# Altium footprint library Solar-Charger.PcbLib: 29 footprints (part 2 of 2)
Each footprint in its own frame and in the unit in brackets; x right, y up, seen from the top. Pads: shape width x height; smd on the part's side, far side on the other; paste and mask are expansions set on the pad; w line width, h text height; cw(c..) or ccw(c..) is an arc to the next point about the centre after c.
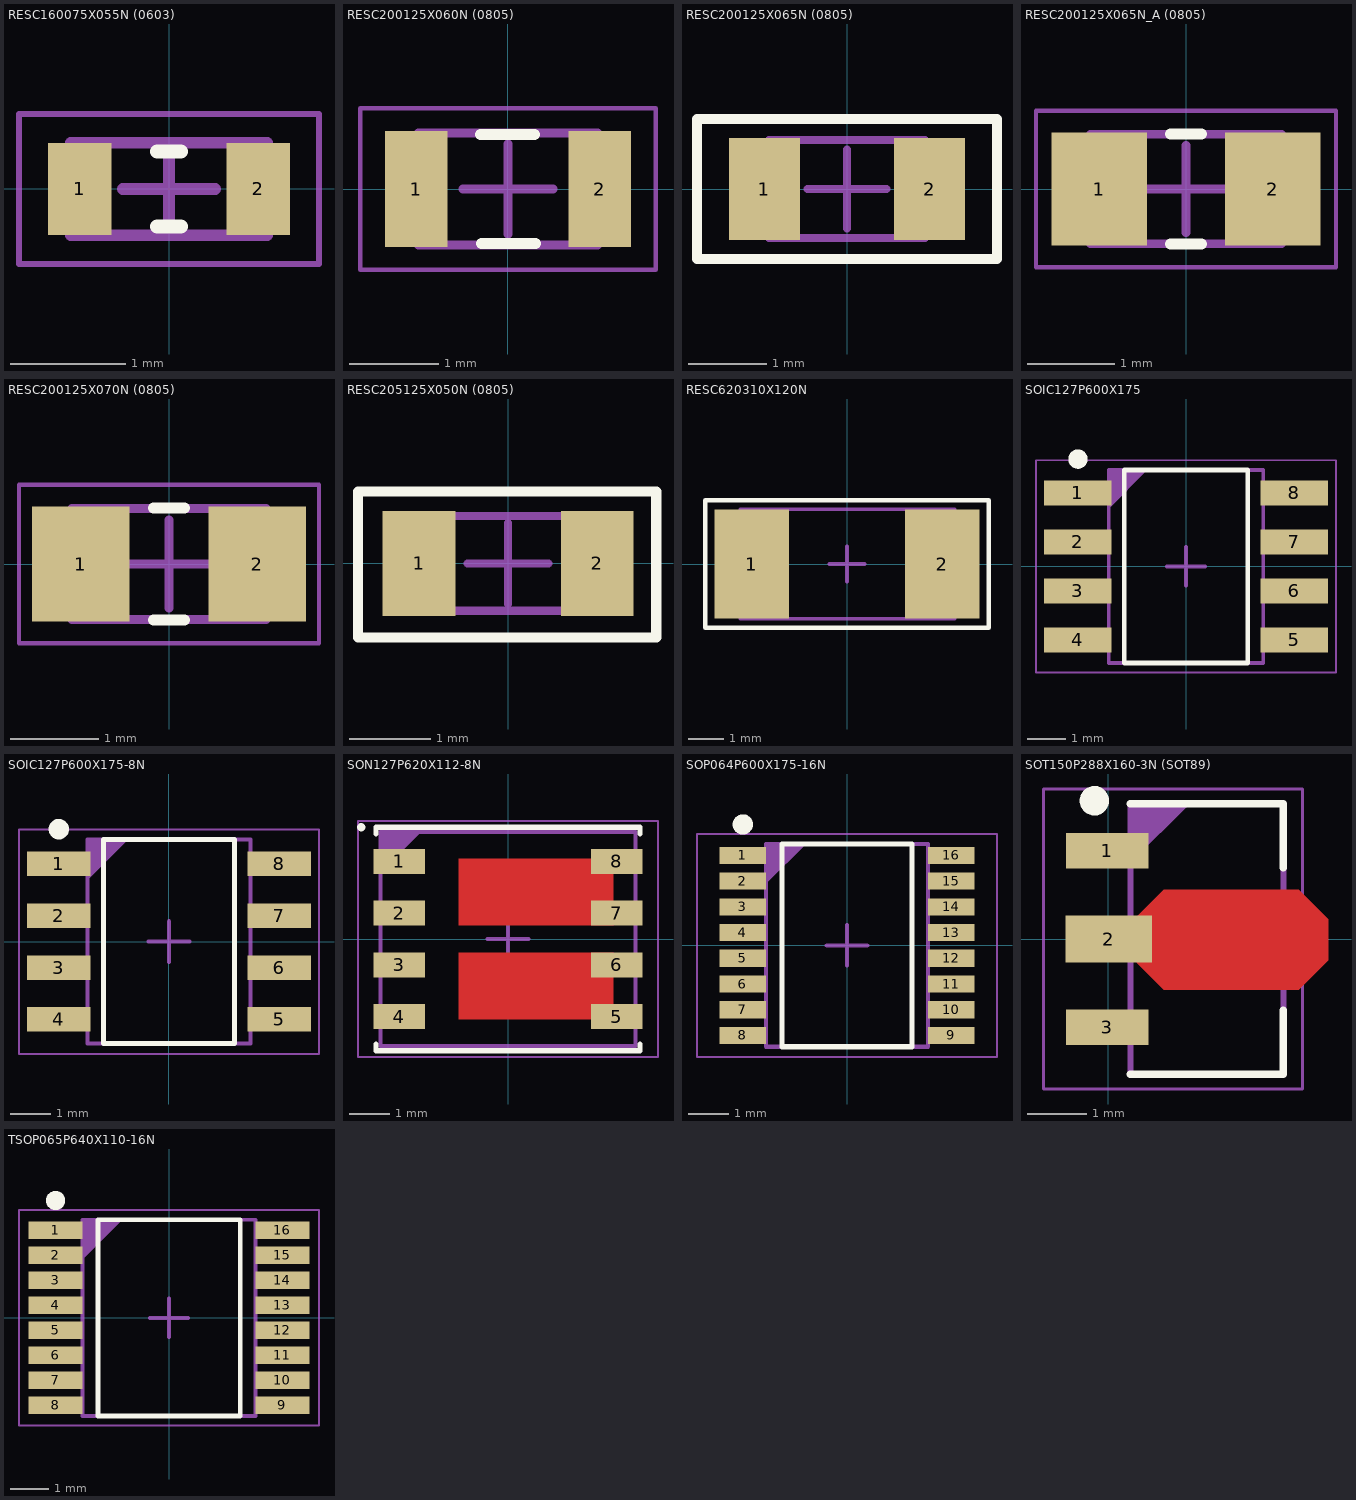
[diagram p1: the footprints below, top view; thin cyan lines are the x and y axes]

## RESC160075X055N (0603) [mm] "Chip Resistor, 2-Leads, Body 1.60x0.75mm, IPC Medium Density"
height 0.55
pads (2):
  rect 0.55x0.8 smd: 1(-0.775,0) 2(0.775,0)
Top Overlay:
  lines w0.125: -0.1,-0.325 0.1,-0.325 ; -0.1,0.325 0.1,0.325
Top Assembly:
  lines w0.1: -0.85,-0.4 -0.85,0.4 0.85,0.4 0.85,-0.4 -0.85,-0.4
Top Courtyard:
  lines w0.05: -1.3,-0.65 -1.3,0.65 1.3,0.65 1.3,-0.65 -1.3,-0.65
  lines w0.1: -0.4,0 0.4,0 ; 0,-0.4 0,0.4
3D body "RESC1608X06N.step": height 0.55, standoff 0, extent -0.85,-0.4 0.85,0.4

## RESC200125X060N (0805) [mm] "Chip Resistor, 2-Leads, Body 2.00x1.25mm, IPC Medium Density"
height 0.6
pads (2):
  rect 0.7x1.3 smd: 1(-1.025,0) 2(1.025,0)
Top Overlay:
  lines w0.125: -0.305,0.61 0.295,0.61 ; -0.295,-0.61 0.305,-0.61
Top Assembly:
  lines w0.1: -1,-0.625 1,-0.625 1,0.625 -1,0.625 -1,-0.625
Top Courtyard:
  lines w0.05: -1.65,-0.9 1.65,-0.9 1.65,0.9 -1.65,0.9 -1.65,-0.9
  lines w0.1: -0.5,0 0.5,0 ; 0,-0.5 0,0.5
3D body "RESC2012X06N.step": height 0.6, standoff 0, extent -1,-0.625 1,0.625

## RESC200125X065N (0805) [mm] "Chip Resistor, 2-Leads, Body 2.00x1.25mm, IPC Medium Density"
height 0.65
pads (2):
  rect 0.9x1.3 smd: 1(-1.05,0) 2(1.05,0)
Top Overlay:
  lines w0.125: -1.905,-0.889 1.905,-0.89 1.905,0.889 -1.905,0.889 -1.905,-0.889
Top Assembly:
  lines w0.1: -0.991,-0.62 0.991,-0.62 0.991,0.62 -0.991,0.62 -0.991,-0.62
Top Courtyard:
  lines w0.05: -1.9,-0.9 1.9,-0.9 1.9,0.9 -1.9,0.9 -1.9,-0.9
  lines w0.1: -0.5,0 0.5,0 ; 0,-0.5 0,0.5
3D body "RMCF0805FG47K5.STEP": height 0.65, standoff 0, extent -1,-0.625 1,0.625

## RESC200125X065N_A (0805) [mm] "Chip Resistor, 2-Leads, Body 2.00x1.25mm, IPC Medium Density"
height 0.65
pads (2):
  rect 1.1x1.3 smd: 1(-1,0) 2(1,0)
Top Overlay:
  lines w0.125: -0.178,-0.635 0.178,-0.635 ; -0.178,0.635 0.178,0.635
Top Assembly:
  lines w0.1: -1.1,-0.63 -1.1,0.63 1.1,0.63 1.1,-0.63 -1.1,-0.63
Top Courtyard:
  lines w0.05: -1.727,-0.9 -1.727,0.9 1.727,0.9 1.727,-0.9 -1.727,-0.9
  lines w0.1: -0.5,0 0.5,0 ; 0,-0.5 0,0.5
3D body "RESC2012X06N.step": height 0.65, standoff 0, extent -1.1,-0.63 1.1,0.63

## RESC200125X070N (0805) [mm] "Chip Resistor, 2-Leads, Body 2.00x1.25mm, IPC Medium Density"
height 0.7
pads (2):
  rect 1.1x1.3 smd: 1(-1,0) 2(1,0)
Top Overlay:
  lines w0.125: -0.178,-0.635 0.178,-0.635 ; -0.178,0.635 0.178,0.635
Top Assembly:
  lines w0.1: -1.1,-0.63 -1.1,0.63 1.1,0.63 1.1,-0.63 -1.1,-0.63
Top Courtyard:
  lines w0.05: -1.7,-0.9 -1.7,0.9 1.7,0.9 1.7,-0.9 -1.7,-0.9
  lines w0.1: -0.5,0 0.5,0 ; 0,-0.5 0,0.5
3D body "RESC2012X07N.step": height 0.7, standoff 0, extent -1.1,-0.63 1.1,0.63

## RESC205125X050N (0805) [mm] "Chip Resistor, 2-Leads, Body 2.05x1.25mm, IPC Medium Density"
height 0.5
pads (2):
  rect 0.9x1.3 smd: 1(-1.1,0) 2(1.1,0)
Top Overlay:
  lines w0.125: -1.854,-0.914 -1.854,0.889 1.829,0.889 1.829,-0.914 -1.854,-0.914
Top Assembly:
  lines w0.1: -0.991,-0.584 -0.991,0.584 0.991,0.584 0.991,-0.584 -0.991,-0.584
Top Courtyard:
  lines w0.05: -1.85,-0.9 -1.85,0.9 1.85,0.9 1.85,-0.9 -1.85,-0.9
  lines w0.1: -0.5,0 0.5,0 ; 0,-0.5 0,0.5
3D body "CRCW08055K00FKTA.STEP": height 0.5, standoff 0, extent -1,-0.625 1,0.625

## RESC620310X120N [mm] "Chip Resistor, 2-Leads, Body 2.05x1.25mm, IPC Medium Density"
height 1.2
pads (2):
  rect 2.1x3.1 smd: 1(-2.7,0) 2(2.7,0)
Top Overlay:
  lines w0.125: -4.013,-1.803 -4.013,1.803 4.013,1.803 4.013,-1.803 -4.013,-1.803
Top Assembly:
  lines w0.1: -3.023,-1.549 3.048,-1.549 3.048,1.549 -3.023,1.549 -3.023,-1.549
Top Courtyard:
  lines w0.05: -4.013,-1.8 4.013,-1.8 4.013,1.8 -4.013,1.8 -4.013,-1.8
  lines w0.1: -0.5,0 0.5,0 ; 0,-0.5 0,0.5
3D body "73M1.SLDPRT": height 1.21, standoff 0.01, extent -3.035,-1.549 3.035,1.551

## SOIC127P600X175 [mm] "SOIC, 8-Leads, Body 4.90x3.90mm, Pitch 1.27mm, IPC Medium Density"
height 1.75
pads (8):
  rect 1.75x0.65 smd: 1(-2.8,1.905) 2(-2.8,0.635) 3(-2.8,-0.635) 4(-2.8,-1.905) 5(2.8,-1.905) 6(2.8,-0.635) 7(2.8,0.635) 8(2.8,1.905)
Top Overlay:
  circle w0.25: c-2.8,2.78 r0.125
  lines w0.125: -1.6,-2.5 1.6,-2.5 1.6,2.5 -1.6,2.5 -1.6,-2.5
Top Assembly:
  region: -2,2.5 -1,2.5 -2,1.5
  lines w0.1: -2,-2.5 2,-2.5 2,2.5 -2,2.5 -2,-2.5
Top Courtyard:
  lines w0.05: -3.886,-2.75 3.886,-2.75 3.886,2.75 -3.886,2.75 -3.886,-2.75
  lines w0.1: -0.5,0 0.5,0 ; 0,-0.5 0,0.5
3D body "SOIC127P600X175-8N.step": height 1.75, standoff 0, extent -3,-2.5 3,2.5

## SOIC127P600X175-8N [mm] "SOIC, 8-Leads, Body 4.90x3.90mm, Pitch 1.27mm, IPC Medium Density"
height 1.75
pads (8):
  rect 1.55x0.6 smd: 1(-2.7,1.905) 2(-2.7,0.635) 3(-2.7,-0.635) 4(-2.7,-1.905) 5(2.7,-1.905) 6(2.7,-0.635) 7(2.7,0.635) 8(2.7,1.905)
Top Overlay:
  circle w0.25: c-2.7,2.755 r0.125
  lines w0.125: -1.6,-2.5 -1.6,2.5 1.6,2.5 1.6,-2.5 -1.6,-2.5
Top Assembly:
  region: -1.999,2.507 -0.999,2.507 -1.999,1.507
  lines w0.1: -2,-2.5 -2,2.5 2,2.5 2,-2.5 -2,-2.5
Top Courtyard:
  lines w0.05: -3.675,-2.75 -3.675,2.75 3.675,2.75 3.675,-2.75 -3.675,-2.75
  lines w0.1: -0.5,0 0.5,0 ; 0,-0.5 0,0.5
3D body "SOIC127P600X175-8N.step": height 1.75, standoff 0, extent -3,-2.5 3,2.5

## SON127P620X112-8N [mm] "SON, 8-Leads, Body 5.15x6.15mm, Pitch 1.27mm, IPC Medium Density"
height 1.12
pads (8):
  rect 1.27x0.61 smd: 1(-2.67,1.905) 2(-2.67,0.635) 3(-2.67,-0.635) 4(-2.67,-1.905) 5(2.67,-1.905) 6(2.67,-0.635) 7(2.67,0.635) 8(2.67,1.905)
Top Layer:
  rectangle: -1.22,0.33 2.59,1.98
  rectangle: -1.22,-1.98 2.59,-0.33
Top Overlay:
  circle w0.1: c-3.6,2.742 r0.05
  lines w0.125: -3.237,-2.572 -3.237,-2.742 3.237,-2.742 3.237,-2.572 ; -3.237,2.572 -3.237,2.742 3.237,2.742 3.237,2.572
Top Assembly:
  region: -3.116,2.642 -2.116,2.642 -3.116,1.642
  lines w0.1: -3.125,-2.63 -3.125,2.63 3.125,2.63 3.125,-2.63 -3.125,-2.63
Top Courtyard:
  lines w0.05: -3.68,-2.9 -3.68,2.9 3.68,2.9 3.68,-2.9 -3.68,-2.9
  lines w0.1: -0.5,0 0.5,0 ; 0,-0.5 0,0.5
3D body "SON127P620X112-8N.step": height 1.12, standoff 0, extent -3.175,-2.63 3.175,2.63

## SOP064P600X175-16N [mm] "SOP, 16-Leads, Body 4.89x3.90mm, Pitch 0.64mm, IPC Medium Density"
height 1.75
pads (16):
  rect 1.14x0.42 smd: 1(-2.57,2.222) 2(-2.57,1.587) 3(-2.57,0.953) 4(-2.57,0.318) 5(-2.57,-0.318) 6(-2.57,-0.953) 7(-2.57,-1.587) 8(-2.57,-2.222) 9(2.57,-2.222) 10(2.57,-1.587) 11(2.57,-0.953) 12(2.57,-0.318) 13(2.57,0.318) 14(2.57,0.953) 15(2.57,1.587) 16(2.57,2.222)
Top Overlay:
  circle w0.25: c-2.57,2.983 r0.125
  lines w0.125: -1.6,-2.5 1.6,-2.5 1.6,2.5 -1.6,2.5 -1.6,-2.5
Top Assembly:
  region: -1.999,2.515 -0.999,2.515 -1.999,1.515
  lines w0.1: -2,-2.5 2,-2.5 2,2.5 -2,2.5 -2,-2.5
Top Courtyard:
  lines w0.05: -3.7,-2.75 3.7,-2.75 3.7,2.75 -3.7,2.75 -3.7,-2.75
  lines w0.1: -0.5,0 0.5,0 ; 0,-0.5 0,0.5
3D body "SOP64P600X175-16N.step": height 1.75, standoff 0, extent -3.004,-2.5 3.004,2.5

## SOT150P288X160-3N (SOT89) [mm] "SOT89, 3-Leads, Body 4.50x2.45mm, Pitch 1.50mm, Lead Span 2.9mm, IPC Medium Density"
height 1.6
pads (3):
  rect 1.4x0.6 smd: 1(-0.013,1.499) 3(-0.013,-1.499)
  rect 1.475x0.8 smd: 2(0.013,0)
Top Layer:
  region: 0.446,0.338 0.945,0.838 3.246,0.838 3.746,0.338 3.746,-0.362 3.246,-0.862 0.945,-0.862 0.446,-0.362
Top Overlay:
  circle w0.25: c-0.233,2.35 r0.125
  lines w0.125: 0.38,-2.3 2.98,-2.3 2.98,-1.212 ; 0.38,2.3 2.98,2.3 2.98,1.212
Top Assembly:
  region: 0.389,2.303 1.389,2.303 0.389,1.303
  lines w0.1: 0.38,-2.3 0.38,2.3 2.98,2.3 2.98,-2.3 0.38,-2.3
Top Courtyard:
  lines w0.05: -1.095,-2.55 -1.095,2.55 3.305,2.55 3.305,-2.55 -1.095,-2.55
  lines w0.1: 1.18,0 2.18,0 ; 1.68,-0.5 1.68,0.5
3D body "SOT89-150P288X160-3N.step": height 1.6, standoff 0, extent -0.511,-2.3 3.449,2.3

## TSOP065P640X110-16N [mm] "TSOP, 16-Leads, Body 5.00x4.40mm, Pitch 0.65mm, IPC Medium Density"
height 1.1
pads (16):
  rect 1.4x0.45 smd: 1(-2.95,2.275) 2(-2.95,1.625) 3(-2.95,0.975) 4(-2.95,0.325) 5(-2.95,-0.325) 6(-2.95,-0.975) 7(-2.95,-1.625) 8(-2.95,-2.275) 9(2.95,-2.275) 10(2.95,-1.625) 11(2.95,-0.975) 12(2.95,-0.325) 13(2.95,0.325) 14(2.95,0.975) 15(2.95,1.625) 16(2.95,2.275)
Top Overlay:
  circle w0.25: c-2.95,3.05 r0.125
  lines w0.125: -1.85,-2.55 1.85,-2.55 1.85,2.55 -1.85,2.55 -1.85,-2.55
Top Assembly:
  region: -2.227,2.532 -1.227,2.532 -2.227,1.532
  lines w0.1: -2.25,-2.55 2.25,-2.55 2.25,2.55 -2.25,2.55 -2.25,-2.55
Top Courtyard:
  lines w0.05: -3.9,-2.8 3.9,-2.8 3.9,2.8 -3.9,2.8 -3.9,-2.8
  lines w0.1: -0.5,0 0.5,0 ; 0,-0.5 0,0.5
3D body "TSOP65P640X110-16N.step": height 1.1, standoff 0, extent -3.2,-2.55 3.2,2.55